# EAGLE library part DRV8340H (library Motor Driver - DRV8340H)
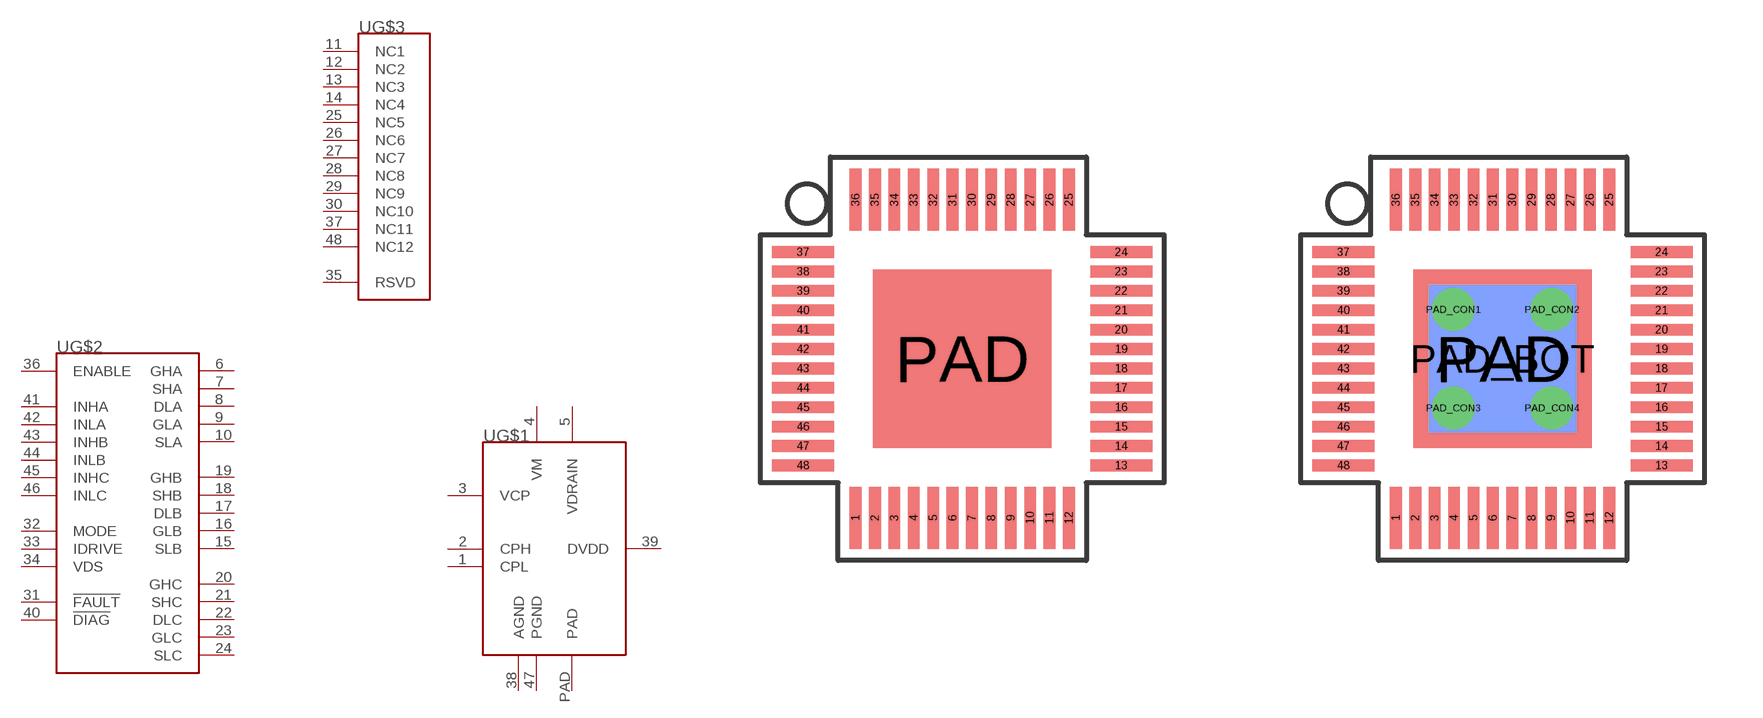
[diagram p0: symbol with the pads of 48-TQFP; footprints 48-TQFP, 48-TQFP-BOTTOM]

Designator prefix -; gates G$1=DRV8340H-PWR G$2=DRV8340H-IO G$3=DRV8340H-NC

## DRV8340HSTANDARD  [48-TQFP]
1  G$1:CPL
2  G$1:CPH
3  G$1:VCP
4  G$1:VM
5  G$1:VDRAIN
6  G$2:GHA
7  G$2:SHA
8  G$2:DLA
9  G$2:GLA
10  G$2:SLA
11  G$3:NC1
12  G$3:NC2
13  G$3:NC3
14  G$3:NC4
15  G$2:SLB
16  G$2:GLB
17  G$2:DLB
18  G$2:SHB
19  G$2:GHB
20  G$2:GHC
21  G$2:SHC
22  G$2:DLC
23  G$2:GLC
24  G$2:SLC
25  G$3:NC5
26  G$3:NC6
27  G$3:NC7
28  G$3:NC8
29  G$3:NC9
30  G$3:NC10
31  G$2:!FAULT
32  G$2:MODE
33  G$2:IDRIVE
34  G$2:VDS
35  G$3:RSVD
36  G$2:ENABLE
37  G$3:NC11
38  G$1:AGND
39  G$1:DVDD
40  G$2:!DIAG
41  G$2:INHA
42  G$2:INLA
43  G$2:INHB
44  G$2:INLB
45  G$2:INHC
46  G$2:INLC
47  G$1:PGND
48  G$3:NC12
PAD  G$1:PAD

## DRV8340HBOTTOM-PAD  [48-TQFP-BOTTOM]
1  G$1:CPL
2  G$1:CPH
3  G$1:VCP
4  G$1:VM
5  G$1:VDRAIN
6  G$2:GHA
7  G$2:SHA
8  G$2:DLA
9  G$2:GLA
10  G$2:SLA
11  G$3:NC1
12  G$3:NC2
13  G$3:NC3
14  G$3:NC4
15  G$2:SLB
16  G$2:GLB
17  G$2:DLB
18  G$2:SHB
19  G$2:GHB
20  G$2:GHC
21  G$2:SHC
22  G$2:DLC
23  G$2:GLC
24  G$2:SLC
25  G$3:NC5
26  G$3:NC6
27  G$3:NC7
28  G$3:NC8
29  G$3:NC9
30  G$3:NC10
31  G$2:!FAULT
32  G$2:MODE
33  G$2:IDRIVE
34  G$2:VDS
35  G$3:RSVD
36  G$2:ENABLE
37  G$3:NC11
38  G$1:AGND
39  G$1:DVDD
40  G$2:!DIAG
41  G$2:INHA
42  G$2:INLA
43  G$2:INHB
44  G$2:INLB
45  G$2:INHC
46  G$2:INLC
47  G$1:PGND
48  G$3:NC12
PAD  G$1:PAD
PAD_BOT  G$1:PAD

## Footprint 48-TQFP (pad centres in mm)
smd 0.3 x 1.6: 1 -2.75,-4.1; 2 -2.25,-4.1; 3 -1.75,-4.1; 4 -1.25,-4.1; 5 -0.75,-4.1; 6 -0.25,-4.1; 7 0.25,-4.1; 8 0.75,-4.1; 9 1.25,-4.1; 10 1.75,-4.1; 11 2.25,-4.1; 12 2.75,-4.1; 25 2.75,4.1; 26 2.25,4.1; 27 1.75,4.1; 28 1.25,4.1; 29 0.75,4.1; 30 0.25,4.1; 31 -0.25,4.1; 32 -0.75,4.1; 33 -1.25,4.1; 34 -1.75,4.1; 35 -2.25,4.1; 36 -2.75,4.1
smd 1.6 x 0.3: 13 4.1,-2.75; 14 4.1,-2.25; 15 4.1,-1.75; 16 4.1,-1.25; 17 4.1,-0.75; 18 4.1,-0.25; 19 4.1,0.25; 20 4.1,0.75; 21 4.1,1.25; 22 4.1,1.75; 23 4.1,2.25; 24 4.1,2.75; 37 -4.1,2.75; 38 -4.1,2.25; 39 -4.1,1.75; 40 -4.1,1.25; 41 -4.1,0.75; 42 -4.1,0.25; 43 -4.1,-0.25; 44 -4.1,-0.75; 45 -4.1,-1.25; 46 -4.1,-1.75; 47 -4.1,-2.25; 48 -4.1,-2.75
smd 4.6 x 4.6: PAD 0,0

## Footprint 48-TQFP-BOTTOM (pad centres in mm)
smd 0.3 x 1.6: 1 -2.75,-4.1; 2 -2.25,-4.1; 3 -1.75,-4.1; 4 -1.25,-4.1; 5 -0.75,-4.1; 6 -0.25,-4.1; 7 0.25,-4.1; 8 0.75,-4.1; 9 1.25,-4.1; 10 1.75,-4.1; 11 2.25,-4.1; 12 2.75,-4.1; 25 2.75,4.1; 26 2.25,4.1; 27 1.75,4.1; 28 1.25,4.1; 29 0.75,4.1; 30 0.25,4.1; 31 -0.25,4.1; 32 -0.75,4.1; 33 -1.25,4.1; 34 -1.75,4.1; 35 -2.25,4.1; 36 -2.75,4.1
smd 1.6 x 0.3: 13 4.1,-2.75; 14 4.1,-2.25; 15 4.1,-1.75; 16 4.1,-1.25; 17 4.1,-0.75; 18 4.1,-0.25; 19 4.1,0.25; 20 4.1,0.75; 21 4.1,1.25; 22 4.1,1.75; 23 4.1,2.25; 24 4.1,2.75; 37 -4.1,2.75; 38 -4.1,2.25; 39 -4.1,1.75; 40 -4.1,1.25; 41 -4.1,0.75; 42 -4.1,0.25; 43 -4.1,-0.25; 44 -4.1,-0.75; 45 -4.1,-1.25; 46 -4.1,-1.75; 47 -4.1,-2.25; 48 -4.1,-2.75
smd 4.6 x 4.6: PAD 0,0
smd 3.81 x 3.81 bottom: PAD_BOT 0,0
drill 0.6: PAD_CON1 -1.27,1.27; PAD_CON2 1.27,1.27; PAD_CON3 -1.27,-1.27; PAD_CON4 1.27,-1.27